# EAGLE library part TSM-115-01-L-DV-P-TR (library SamacSys_Parts)
30 Position, Dual-Row, .100" Surface Mount Terminal Strip Source: Datasheet <http://suddendocs.samtec.com/prints/tsm-1xx-xx-xxx-xx-x-xxx-x-mkt.pdf>
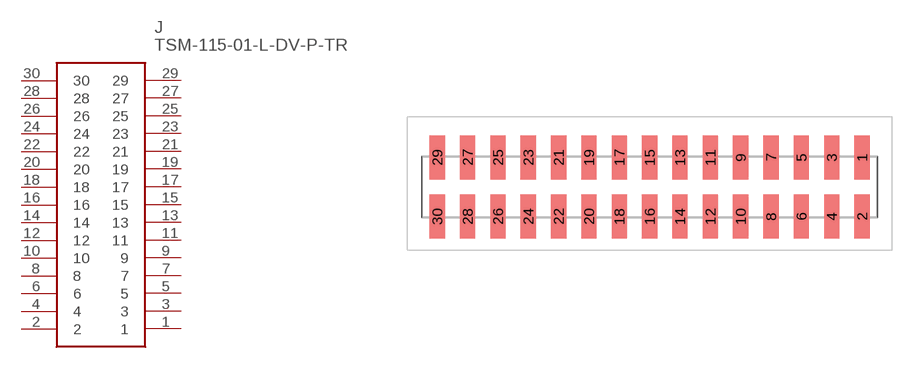
[diagram p127: symbol with the pads of TSM-115-YY-ZZZ-DV-P-TR; footprint TSM-115-YY-ZZZ-DV-P-TR]

Designator prefix J

## TSM-115-01-L-DV-P-TR (DESCRIPTION: 30 Position, Dual-Row, .100&quot; Surface Mount Terminal Strip; HEIGHT: mm; MANUFACTURER_NAME: SAMTEC; MANUFACTURER_PART_NUMBER: TSM-115-01-L-DV-P-TR; MOUSER_PART_NUMBER: 200-TSM11501LDVPTR; MOUSER_PRICE-STOCK: https://www.mouser.co.uk/ProductDetail/Samtec/TSM-115-01-L-DV-P-TR?qs=iT52DjcXuduaFrKcxHA7wg%3D%3D)  [TSM-115-YY-ZZZ-DV-P-TR]
1  1
2  2
3  3
4  4
5  5
6  6
7  7
8  8
9  9
10  10
11  11
12  12
13  13
14  14
15  15
16  16
17  17
18  18
19  19
20  20
21  21
22  22
23  23
24  24
25  25
26  26
27  27
28  28
29  29
30  30

## Footprint TSM-115-YY-ZZZ-DV-P-TR (pad centres in mm)
TSM-115-YY-ZZZ-DV-P-TR
smd 1.27 x 3.68: 1 17.78,2.475; 2 17.78,-2.475; 3 15.24,2.475; 4 15.24,-2.475; 5 12.7,2.475; 6 12.7,-2.475; 7 10.16,2.475; 8 10.16,-2.475; 9 7.62,2.475; 10 7.62,-2.475; 11 5.08,2.475; 12 5.08,-2.475; 13 2.54,2.475; 14 2.54,-2.475; 15 0,2.475; 16 0,-2.475; 17 -2.54,2.475; 18 -2.54,-2.475; 19 -5.08,2.475; 20 -5.08,-2.475; 21 -7.62,2.475; 22 -7.62,-2.475; 23 -10.16,2.475; 24 -10.16,-2.475; 25 -12.7,2.475; 26 -12.7,-2.475; 27 -15.24,2.475; 28 -15.24,-2.475; 29 -17.78,2.475; 30 -17.78,-2.475